# EAGLE library part PL-TCP-00-S* (library picoLight)
picoLight parallel fiber optic module 12 channel transmitter >Source: picoLight
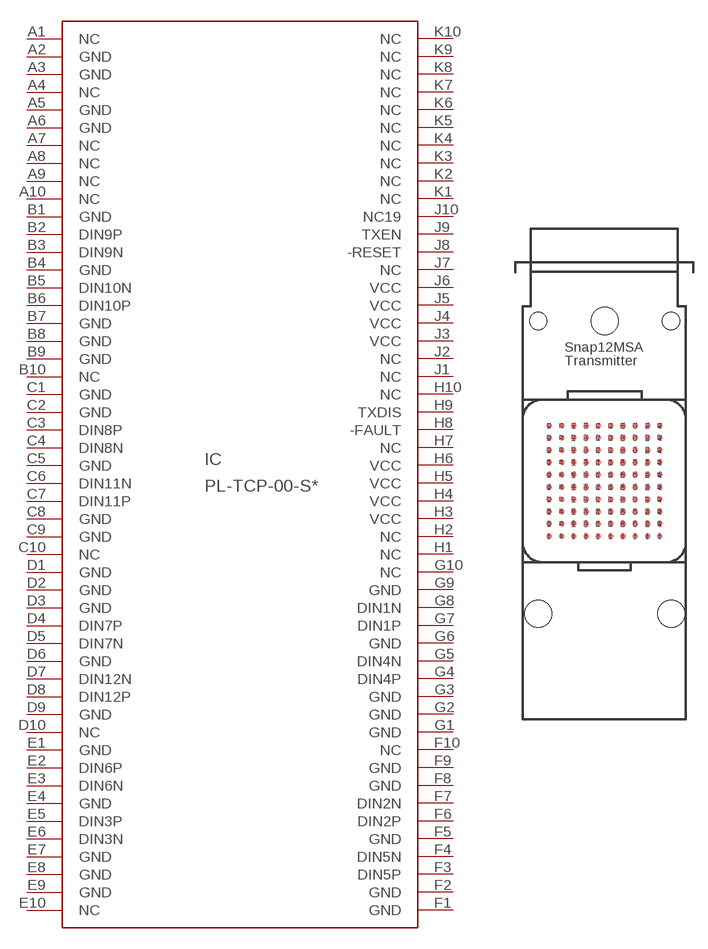
[diagram p0: symbol with the pads of SNAP12-TXM; footprint SNAP12-TXM]

Designator prefix IC

## PL-TCP-00-S53-0B, PL-TCP-00-S53-3A, PL-TCP-00-S63-0A, PL-TCP-00-S63-3A, PL-TCP-00-SD3-3A, PL-TCP-00-SD30A, PL-TCP-00-SE3-0A, PL-TCP-00-SE3-3A  [SNAP12-TXM]
A1  NC  nc
A2  GND  pwr
A3  GND  pwr
A4  NC  nc
A5  GND  pwr
A6  GND  pwr
A7  NC  nc
A8  NC  nc
A9  NC  nc
A10  NC  nc
B1  GND  pwr
B2  DIN9P  in
B3  DIN9N  in
B4  GND  pwr
B5  DIN10N  in
B6  DIN10P  in
B7  GND  pwr
B8  GND  pwr
B9  GND  pwr
B10  NC  nc
C1  GND  pwr
C2  GND  pwr
C3  DIN8P  in
C4  DIN8N  in
C5  GND  pwr
C6  DIN11N  in
C7  DIN11P  in
C8  GND  pwr
C9  GND  pwr
C10  NC  nc
D1  GND  pwr
D2  GND  pwr
D3  GND  pwr
D4  DIN7P  in
D5  DIN7N  in
D6  GND  pwr
D7  DIN12N  in
D8  DIN12P  in
D9  GND  pwr
D10  NC  nc
E1  GND  pwr
E2  DIN6P  in
E3  DIN6N  in
E4  GND  pwr
E5  DIN3P  in
E6  DIN3N  in
E7  GND  pwr
E8  GND  pwr
E9  GND  pwr
E10  NC  nc
F1  GND  pwr
F2  GND  pwr
F3  DIN5P  in
F4  DIN5N  in
F5  GND  pwr
F6  DIN2P  in
F7  DIN2N  in
F8  GND  pwr
F9  GND  pwr
F10  NC  nc
G1  GND  pwr
G2  GND  pwr
G3  GND  pwr
G4  DIN4P  in
G5  DIN4N  in
G6  GND  pwr
G7  DIN1P  in
G8  DIN1N  in
G9  GND  pwr
G10  NC  nc
H1  NC  nc
H2  NC  nc
H3  VCC  pwr
H4  VCC  pwr
H5  VCC  pwr
H6  VCC  pwr
H7  NC  nc
H8  -FAULT  out
H9  TXDIS  in
H10  NC  nc
J1  NC  nc
J2  NC  nc
J3  VCC  pwr
J4  VCC  pwr
J5  VCC  pwr
J6  VCC  pwr
J7  NC  nc
J8  -RESET  in
J9  TXEN  in
J10  NC19  nc
K1  NC  nc
K2  NC  nc
K3  NC  nc
K4  NC  nc
K5  NC  nc
K6  NC  nc
K7  NC  nc
K8  NC  nc
K9  NC  nc
K10  NC  nc

## Footprint SNAP12-TXM (pad centres in mm)
snap12MSA Transmitter module FCI 100-position Meg Array plug (FCI PN: 84512-101) Source: Snap12 MSA module standards rev1.1.
smd 0.58 x 0.58: A1 12.565,19.425; A2 12.565,18.155; A3 12.565,16.885; A4 12.565,15.615; A5 12.565,14.345; A6 12.565,13.075; A7 12.565,11.805; A8 12.565,10.535; A9 12.565,9.265; A10 12.565,7.995; B1 11.295,19.425; B2 11.295,18.155; B3 11.295,16.885; B4 11.295,15.615; B5 11.295,14.345; B6 11.295,13.075; B7 11.295,11.805; B8 11.295,10.535; B9 11.295,9.265; B10 11.295,7.995; C1 10.025,19.425; C2 10.025,18.155; C3 10.025,16.885; C4 10.025,15.615; C5 10.025,14.345; C6 10.025,13.075; C7 10.025,11.805; C8 10.025,10.535; C9 10.025,9.265; C10 10.025,7.995; D1 8.755,19.425; D2 8.755,18.155; D3 8.755,16.885; D4 8.755,15.615; D5 8.755,14.345; D6 8.755,13.075; D7 8.755,11.805; D8 8.755,10.535; D9 8.755,9.265; D10 8.755,7.995; E1 7.485,19.425; E2 7.485,18.155; E3 7.485,16.885; E4 7.485,15.615; E5 7.485,14.345; E6 7.485,13.075; E7 7.485,11.805; E8 7.485,10.535; E9 7.485,9.265; E10 7.485,7.995; F1 6.215,19.425; F2 6.215,18.155; F3 6.215,16.885; F4 6.215,15.615; F5 6.215,14.345; F6 6.215,13.075; F7 6.215,11.805; F8 6.215,10.535; F9 6.215,9.265; F10 6.215,7.995; G1 4.945,19.425; G2 4.945,18.155; G3 4.945,16.885; G4 4.945,15.615; G5 4.945,14.345; G6 4.945,13.075; G7 4.945,11.805; G8 4.945,10.535; G9 4.945,9.265; G10 4.945,7.995; H1 3.675,19.425; H2 3.675,18.155; H3 3.675,16.885; H4 3.675,15.615; H5 3.675,14.345; H6 3.675,13.075; H7 3.675,11.805; H8 3.675,10.535; H9 3.675,9.265; H10 3.675,7.995; J1 2.405,19.425; J2 2.405,18.155; J3 2.405,16.885; J4 2.405,15.615; J5 2.405,14.345; J6 2.405,13.075; J7 2.405,11.805; J8 2.405,10.535; J9 2.405,9.265; J10 2.405,7.995; K1 1.14,19.43; K2 1.135,18.155; K3 1.135,16.885; K4 1.135,15.615; K5 1.135,14.345; K6 1.135,13.075; K7 1.135,11.805; K8 1.135,10.535; K9 1.135,9.265; K10 1.135,7.995
hole 2.8 at 0,0
hole 2.8 at 13.72,0
hole 1.8 at 0,30.23
hole 1.8 at 13.72,30.23
hole 2.8 at 6.86,30.23